# EAGLE library part GP2106_EVAL (library KwanSystems)
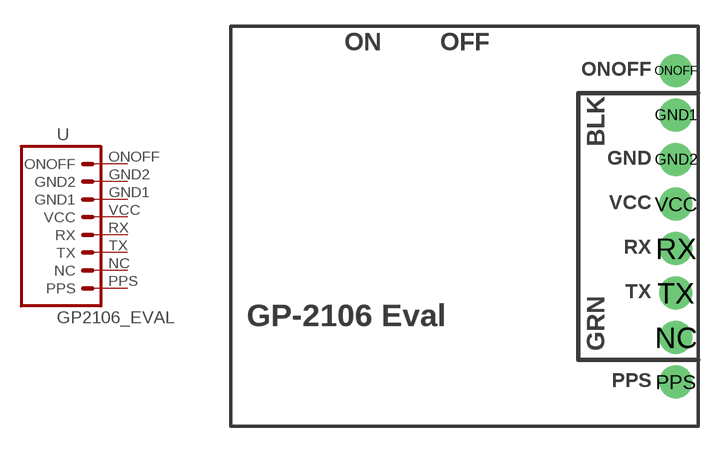
[diagram p45: symbol with the pads of GP2106_EVAL; footprint GP2106_EVAL]

Designator prefix -

## GP2106_EVAL  [GP2106_EVAL]
GND1  GND1  pas
GND2  GND2  pas
NC  NC  pas
ONOFF  ONOFF  pas
PPS  PPS  pas
RX  RX  pas
TX  TX  pas
VCC  VCC  pas

## Footprint GP2106_EVAL (pad centres in mm)
drill 1.016 pad 1.88: GND1 25.4,17.78; GND2 25.4,15.24; NC 25.4,5.08; ONOFF 25.4,20.32; PPS 25.4,2.54; RX 25.4,10.16; TX 25.4,7.62; VCC 25.4,12.7